# EAGLE library part XC2C128_TQ144 (library xilinx_coolrunner2_rev1)
Coolrunner XC2C128 TQ144
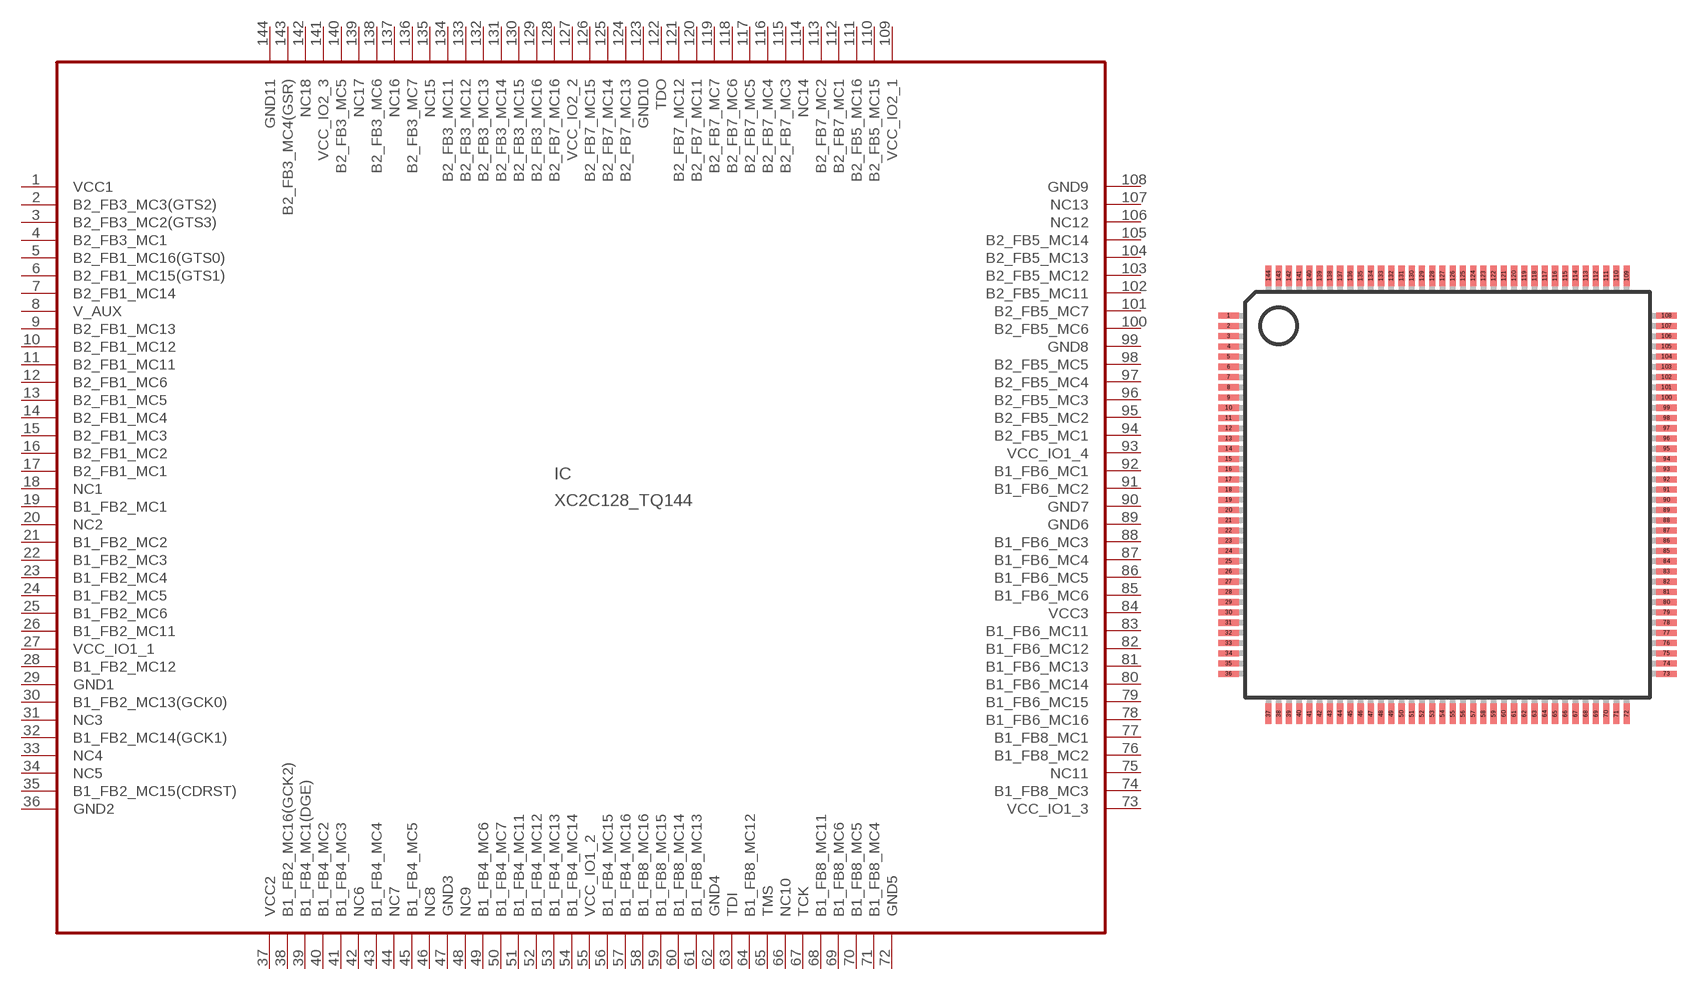
[diagram p0: symbol with the pads of TQ144; footprint TQ144]

Designator prefix IC

## XC2C128_TQ144  [TQ144]
1  VCC1  pwr
2  B2_FB3_MC3(GTS2)
3  B2_FB3_MC2(GTS3)
4  B2_FB3_MC1
5  B2_FB1_MC16(GTS0)
6  B2_FB1_MC15(GTS1)
7  B2_FB1_MC14
8  V_AUX  pwr
9  B2_FB1_MC13
10  B2_FB1_MC12
11  B2_FB1_MC11
12  B2_FB1_MC6
13  B2_FB1_MC5
14  B2_FB1_MC4
15  B2_FB1_MC3
16  B2_FB1_MC2
17  B2_FB1_MC1
18  NC1  nc
19  B1_FB2_MC1
20  NC2  nc
21  B1_FB2_MC2
22  B1_FB2_MC3
23  B1_FB2_MC4
24  B1_FB2_MC5
25  B1_FB2_MC6
26  B1_FB2_MC11
27  VCC_IO1_1  pwr
28  B1_FB2_MC12
29  GND1  pwr
30  B1_FB2_MC13(GCK0)
31  NC3  nc
32  B1_FB2_MC14(GCK1)
33  NC4  nc
34  NC5  nc
35  B1_FB2_MC15(CDRST)
36  GND2  pwr
37  VCC2  pwr
38  B1_FB2_MC16(GCK2)
39  B1_FB4_MC1(DGE)
40  B1_FB4_MC2
41  B1_FB4_MC3
42  NC6  nc
43  B1_FB4_MC4
44  NC7  nc
45  B1_FB4_MC5
46  NC8  nc
47  GND3  pwr
48  NC9  nc
49  B1_FB4_MC6
50  B1_FB4_MC7
51  B1_FB4_MC11
52  B1_FB4_MC12
53  B1_FB4_MC13
54  B1_FB4_MC14
55  VCC_IO1_2  pwr
56  B1_FB4_MC15
57  B1_FB4_MC16
58  B1_FB8_MC16
59  B1_FB8_MC15
60  B1_FB8_MC14
61  B1_FB8_MC13
62  GND4  pwr
63  TDI  in
64  B1_FB8_MC12
65  TMS  in
66  NC10  nc
67  TCK  in
68  B1_FB8_MC11
69  B1_FB8_MC6
70  B1_FB8_MC5
71  B1_FB8_MC4
72  GND5  pwr
73  VCC_IO1_3  pwr
74  B1_FB8_MC3
75  NC11  nc
76  B1_FB8_MC2
77  B1_FB8_MC1
78  B1_FB6_MC16
79  B1_FB6_MC15
80  B1_FB6_MC14
81  B1_FB6_MC13
82  B1_FB6_MC12
83  B1_FB6_MC11
84  VCC3  pwr
85  B1_FB6_MC6
86  B1_FB6_MC5
87  B1_FB6_MC4
88  B1_FB6_MC3
89  GND6  pwr
90  GND7  pwr
91  B1_FB6_MC2
92  B1_FB6_MC1
93  VCC_IO1_4  pwr
94  B2_FB5_MC1
95  B2_FB5_MC2
96  B2_FB5_MC3
97  B2_FB5_MC4
98  B2_FB5_MC5
99  GND8  pwr
100  B2_FB5_MC6
101  B2_FB5_MC7
102  B2_FB5_MC11
103  B2_FB5_MC12
104  B2_FB5_MC13
105  B2_FB5_MC14
106  NC12  nc
107  NC13  nc
108  GND9  pwr
109  VCC_IO2_1  pwr
110  B2_FB5_MC15
111  B2_FB5_MC16
112  B2_FB7_MC1
113  B2_FB7_MC2
114  NC14  nc
115  B2_FB7_MC3
116  B2_FB7_MC4
117  B2_FB7_MC5
118  B2_FB7_MC6
119  B2_FB7_MC7
120  B2_FB7_MC11
121  B2_FB7_MC12
122  TDO  out
123  GND10  pwr
124  B2_FB7_MC13
125  B2_FB7_MC14
126  B2_FB7_MC15
127  VCC_IO2_2  pwr
128  B2_FB7_MC16
129  B2_FB3_MC16
130  B2_FB3_MC15
131  B2_FB3_MC14
132  B2_FB3_MC13
133  B2_FB3_MC12
134  B2_FB3_MC11
135  NC15  nc
136  B2_FB3_MC7
137  NC16  nc
138  B2_FB3_MC6
139  NC17  nc
140  B2_FB3_MC5
141  VCC_IO2_3  pwr
142  NC18  nc
143  B2_FB3_MC4(GSR)
144  GND11  pwr

## Footprint TQ144 (pad centres in mm)
TQ144
smd 1 x 0.3: 1 -10.7,8.75; 2 -10.7,8.25; 3 -10.7,7.75; 4 -10.7,7.25; 5 -10.7,6.75; 6 -10.7,6.25; 7 -10.7,5.75; 8 -10.7,5.25; 9 -10.7,4.75; 10 -10.7,4.25; 11 -10.7,3.75; 12 -10.7,3.25; 13 -10.7,2.75; 14 -10.7,2.25; 15 -10.7,1.75; 16 -10.7,1.25; 17 -10.7,0.75; 18 -10.7,0.25; 19 -10.7,-0.25; 20 -10.7,-0.75; 21 -10.7,-1.25; 22 -10.7,-1.75; 23 -10.7,-2.25; 24 -10.7,-2.75; 25 -10.7,-3.25; 26 -10.7,-3.75; 27 -10.7,-4.25; 28 -10.7,-4.75; 29 -10.7,-5.25; 30 -10.7,-5.75; 31 -10.7,-6.25; 32 -10.7,-6.75; 33 -10.7,-7.25; 34 -10.7,-7.75; 35 -10.7,-8.25; 36 -10.7,-8.75; 73 10.7,-8.75; 74 10.7,-8.25; 75 10.7,-7.75; 76 10.7,-7.25; 77 10.7,-6.75; 78 10.7,-6.25; 79 10.7,-5.75; 80 10.7,-5.25; 81 10.7,-4.75; 82 10.7,-4.25; 83 10.7,-3.75; 84 10.7,-3.25; 85 10.7,-2.75; 86 10.7,-2.25; 87 10.7,-1.75; 88 10.7,-1.25; 89 10.7,-0.75; 90 10.7,-0.25; 91 10.7,0.25; 92 10.7,0.75; 93 10.7,1.25; 94 10.7,1.75; 95 10.7,2.25; 96 10.7,2.75; 97 10.7,3.25; 98 10.7,3.75; 99 10.7,4.25; 100 10.7,4.75; 101 10.7,5.25; 102 10.7,5.75; 103 10.7,6.25; 104 10.7,6.75; 105 10.7,7.25; 106 10.7,7.75; 107 10.7,8.25; 108 10.7,8.75
smd 0.3 x 1: 37 -8.75,-10.7; 38 -8.25,-10.7; 39 -7.75,-10.7; 40 -7.25,-10.7; 41 -6.75,-10.7; 42 -6.25,-10.7; 43 -5.75,-10.7; 44 -5.25,-10.7; 45 -4.75,-10.7; 46 -4.25,-10.7; 47 -3.75,-10.7; 48 -3.25,-10.7; 49 -2.75,-10.7; 50 -2.25,-10.7; 51 -1.75,-10.7; 52 -1.25,-10.7; 53 -0.75,-10.7; 54 -0.25,-10.7; 55 0.25,-10.7; 56 0.75,-10.7; 57 1.25,-10.7; 58 1.75,-10.7; 59 2.25,-10.7; 60 2.75,-10.7; 61 3.25,-10.7; 62 3.75,-10.7; 63 4.25,-10.7; 64 4.75,-10.7; 65 5.25,-10.7; 66 5.75,-10.7; 67 6.25,-10.7; 68 6.75,-10.7; 69 7.25,-10.7; 70 7.75,-10.7; 71 8.25,-10.7; 72 8.75,-10.7; 109 8.75,10.7; 110 8.25,10.7; 111 7.75,10.7; 112 7.25,10.7; 113 6.75,10.7; 114 6.25,10.7; 115 5.75,10.7; 116 5.25,10.7; 117 4.75,10.7; 118 4.25,10.7; 119 3.75,10.7; 120 3.25,10.7; 121 2.75,10.7; 122 2.25,10.7; 123 1.75,10.7; 124 1.25,10.7; 125 0.75,10.7; 126 0.25,10.7; 127 -0.25,10.7; 128 -0.75,10.7; 129 -1.25,10.7; 130 -1.75,10.7; 131 -2.25,10.7; 132 -2.75,10.7; 133 -3.25,10.7; 134 -3.75,10.7; 135 -4.25,10.7; 136 -4.75,10.7; 137 -5.25,10.7; 138 -5.75,10.7; 139 -6.25,10.7; 140 -6.75,10.7; 141 -7.25,10.7; 142 -7.75,10.7; 143 -8.25,10.7; 144 -8.75,10.7